# EAGLE library part USB-MINIB (library lib_stankus)
USB Mini-B connector
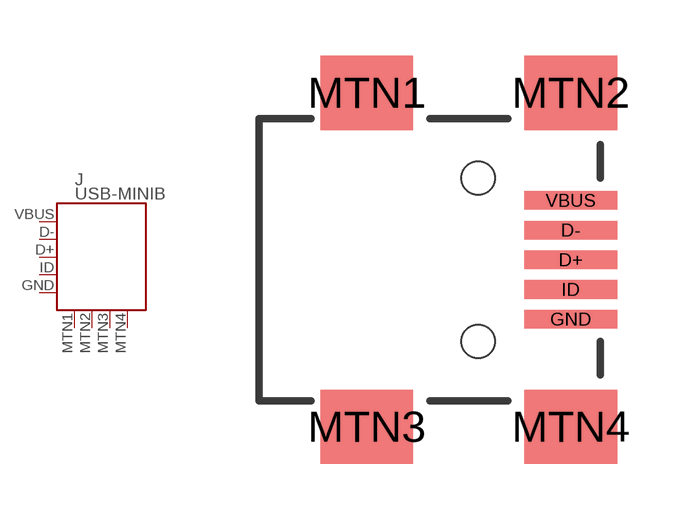
[diagram p30: symbol with the pads of USB-MINIB; footprint USB-MINIB]

Designator prefix J

## USB-MINIB  [USB-MINIB]
D+  D+  pas
D-  D-  pas
GND  GND  pas
ID  ID  pas
MTN1  MTN1  pas
MTN2  MTN2  pas
MTN3  MTN3  pas
MTN4  MTN4  pas
VBUS  VBUS  pas

## Footprint USB-MINIB (pad centres in mm)
USB Mini-B connector
smd 2.5 x 0.5: D+ 3.77,0; D- 3.77,0.8; GND 3.77,-1.6; ID 3.77,-0.8; VBUS 3.77,1.6
smd 2.5 x 2: MTN1 -1.73,4.5; MTN2 3.77,4.5; MTN3 -1.73,-4.5; MTN4 3.77,-4.5
hole 0.9 at 1.27,2.2
hole 0.9 at 1.27,-2.2